# Altium footprint library Transistors.PcbLib: 2 footprints
Each footprint in its own frame and in the unit in brackets; x right, y up, seen from the top. Pads: shape width x height; smd on the part's side, far side on the other; paste and mask are expansions set on the pad; w line width, h text height; cw(c..) or ccw(c..) is an arc to the next point about the centre after c.
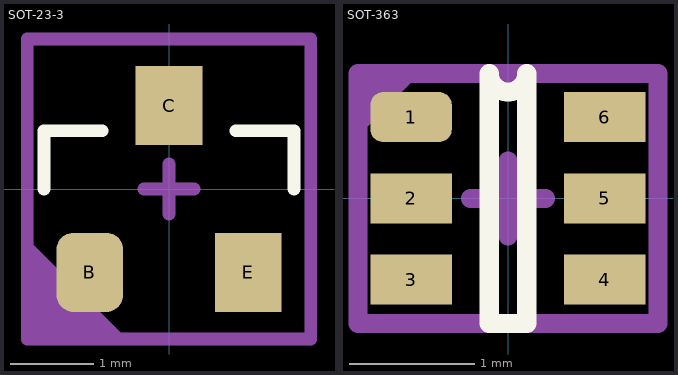
[diagram p0: the footprints below, top view; thin cyan lines are the x and y axes]

## SOT-23-3 [mm]
pads (3):
  rrect50% 0.8x0.95 smd: B(-0.95,-1)
  rect 0.8x0.95 smd: C(0,1) E(0.95,-1)
Top Overlay:
  lines w0.153: -1.5,0 -1.5,0.7 -0.8,0.7 ; 0.8,0.7 1.5,0.7 1.5,0
Top Assembly:
  region: -1.7,-1.8 -1.7,-0.6 -0.5,-1.8
  lines w0.1: -1.7,-1.8 1.7,-1.8 1.7,1.8 -1.7,1.8 -1.7,-1.8
  text "'.Designator'" at -4.532,-0.333 h0.8
Top Courtyard (Mech6):
  lines w0.153: -0.3,0 0.3,0 ; 0,-0.3 0,0.3 ; -1.7,-1.8 -1.7,1.8 1.7,1.8 1.7,-1.8 -1.7,-1.8
3D body "CircuitWorks-SOT-23.STEP": height 1.05, standoff -0.05, extent -1.5,-1.25 1.5,1.25

## SOT-363 [mm]
pads (6):
  rrect50% 0.65x0.4 smd: 1(-0.775,0.65)
  rect 0.65x0.4 smd: 2(-0.775,0) 3(-0.775,-0.65) 4(0.775,-0.65) 5(0.775,0) 6(0.775,0.65)
Top Overlay:
  lines w0.153: -0.15,-1 0.15,-1 0.15,1 cw(c0,1) -0.15,1 -0.15,-1
Top Assembly:
  region: -1.2,1 -1.2,0.5 -0.7,1
  lines w0.1: -1.2,-1 1.2,-1 1.2,1 -1.2,1 -1.2,-1
  text "'.Designator'" at -4.532,-0.333 h0.8
Top Courtyard (Mech6):
  lines w0.153: -0.3,0 0,0 ; 0,-0.3 0,0 ; 0,0.3 0,0 ; 0.3,0 0,0 ; -1.2,-1 1.2,-1 1.2,1 -1.2,1 -1.2,-1
3D body "BC847SH6327XTSA1.STEP": height 1, standoff 0, extent -1.05,-1 1.05,1